# EAGLE library part 1939870-1 (library 1939870-1)
Body Features: Primary Product Color Black | Configuration Features: Number of Rows 1 | PCB Mount Orientation Right Angle | Number of Positions 9 | Contact Features: Contact Mating Area Plating Material Thickness .2 .5 MICM | Contact Layout Inline | Contact Current Rating (Max) .5 AMP | Contact Underplating Material Nickel | Contact Mating Area Plating Material Gold | Contact Base Material Copper Alloy | PCB Contact Termination Area Plating Material Tin | Dimensions: Profile Height from PCB .116 INCH | Source: Datasheet <https://www.te.com/commerce/DocumentDelivery/DDEController?Action=showdoc&DocId=Customer Drawing1939870DpdfJapaneseJPN_CD_1939870_D.pdf1939870-1>
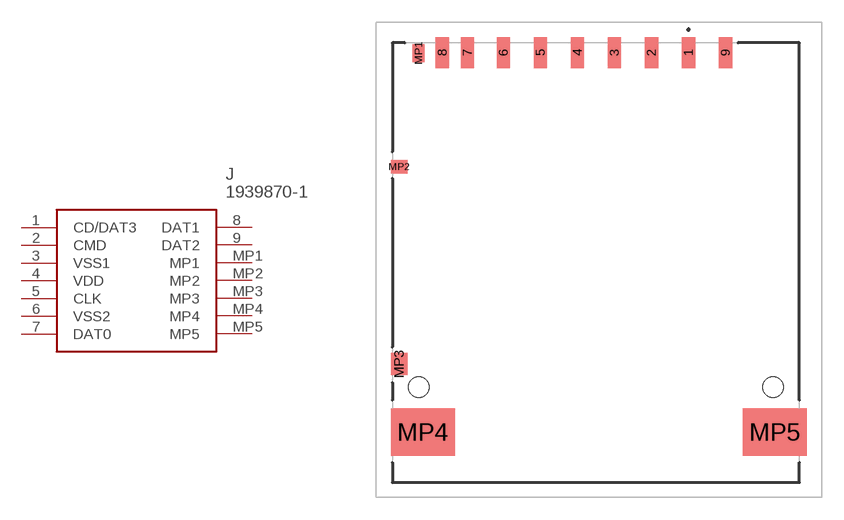
[diagram p0: symbol with the pads of 19398701; footprint 19398701]

Designator prefix J

## 1939870-1 (Description: Body Features: Primary Product Color Black | Configuration Features: Number of Rows 1 | PCB Mount Orientation Right Angle | Number of Positions 9 | Contact Features: Contact Mating Area Plating Material Thickness .2 .5 MICM | Contact Layout Inline | Contact Current Rating (Max) .5 AMP | Contact Underplating Material Nickel | Contact Mating Area Plating Material Gold | Contact Base Material Copper Alloy | PCB Contact Termination Area Plating Material Tin | Dimensions: Profile Height from PCB .116 INCH |; Height: 3.7mm; Manufacturer_Name: TE Connectivity; Manufacturer_Part_Number: 1939870-1; Mouser_Part_Number: 571-1939870-1; Mouser_Price-Stock: https://www.mouser.co.uk/ProductDetail/TE-Connectivity/1939870-1?qs=TL6PIybY3BOt2514n%2FsFbQ%3D%3D)  [19398701]
1  CD/DAT3
2  CMD
3  VSS1
4  VDD
5  CLK
6  VSS2
7  DAT0
8  DAT1
9  DAT2
MP1  MP1
MP2  MP2
MP3  MP3
MP4  MP4
MP5  MP5

## Footprint 19398701 (pad centres in mm)
1939870-1-6
smd 0.9 x 2.1: 1 6.255,14.2; 2 3.755,14.2; 3 1.255,14.2; 4 -1.245,14.2; 5 -3.745,14.2; 6 -6.245,14.2; 7 -8.67,14.2; 8 -10.37,14.2; 9 8.755,14.2
smd 0.8 x 1.2: MP1 -11.97,14.15
smd 1.13 x 0.9: MP2 -13.285,6.48
smd 1.13 x 1.5: MP3 -13.285,-6.83
smd 4.32 x 3.2: MP4 -11.69,-11.45; MP5 12.09,-11.45
hole 1.4 at -11.97,-8.4
hole 1.4 at 11.97,-8.4